# Altium footprint library memory.PcbLib: 1 footprints
Each footprint in its own frame and in the unit in brackets; x right, y up, seen from the top. Pads: shape width x height; smd on the part's side, far side on the other; paste and mask are expansions set on the pad; w line width, h text height; cw(c..) or ccw(c..) is an arc to the next point about the centre after c.
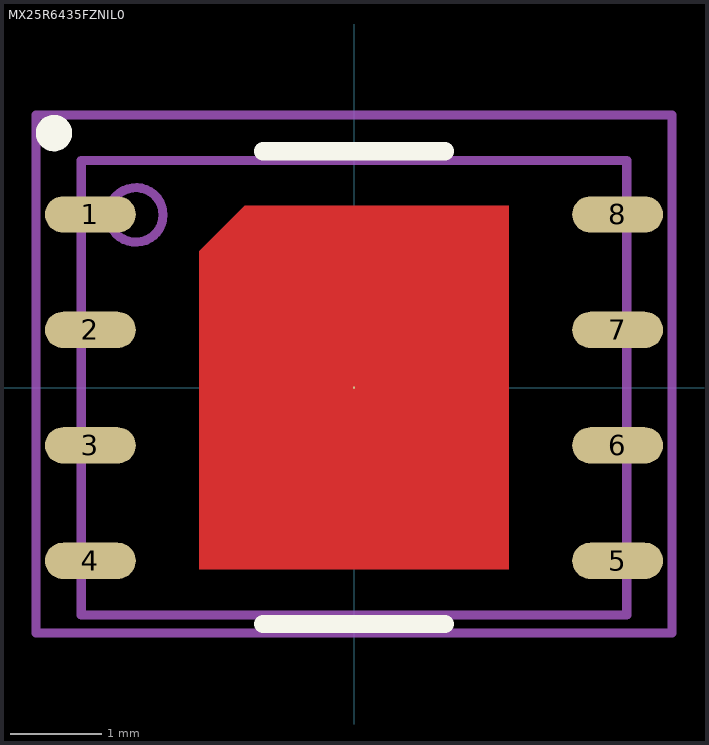
[diagram p0: the footprint, top view; thin cyan lines are the x and y axes]

## MX25R6435FZNIL0 [mm] "8-WSON (6x5)"
height 0.8
pads (9):
  round 0.025 smd paste-10: 0(0,0)
  oval 1x0.4 smd: 1(-2.9,1.905) 2(-2.9,0.635) 3(-2.9,-0.635) 4(-2.9,-1.905) 5(2.9,-1.905) 6(2.9,-0.635) 7(2.9,0.635) 8(2.9,1.905)
Top Layer:
  region: -1.7,-2 1.7,-2 1.7,2 -1.2,2 -1.7,1.5
Top Overlay:
  circle w0.2: c-3.3,2.8 r0.1
  lines w0.2: -1,-2.6 1,-2.6 ; -1,2.6 1,2.6
Top Paste:
  region: 0.4,-1.8 0.4,-0.8 -0.4,-0.8 -0.4,-1.8
  region: -0.7,-1.8 -0.7,-0.8 -1.5,-0.8 -1.5,-1.8
  region: 1.5,-1.8 1.5,-0.8 0.7,-0.8 0.7,-1.8
  region: 0.4,0.8 0.4,1.8 -0.4,1.8 -0.4,0.8
  region: -0.7,0.8 -0.7,1.8 -1.5,1.8 -1.5,0.8
  region: 1.5,0.8 1.5,1.8 0.7,1.8 0.7,0.8
  region: 0.4,-0.5 0.4,0.5 -0.4,0.5 -0.4,-0.5
  region: -0.7,-0.5 -0.7,0.5 -1.5,0.5 -1.5,-0.5
  region: 1.5,-0.5 1.5,0.5 0.7,0.5 0.7,-0.5
Top Assembly:
  circle w0.1: c-2.4,1.9 r0.3
  lines w0.1: -3,-2.5 3,-2.5 3,2.5 -3,2.5 -3,-2.5
Top Component Center:
  lines w0.1: -0.5,0 0.5,0 ; 0,-0.5 0,0.5
Top Component Outline:
  lines w0.1: -3,-2.5 3,-2.5 3,2.5 -3,2.5 -3,-2.5
Top Courtyard:
  lines w0.1: -3.5,-2.7 3.5,-2.7 3.5,3 -3.5,3 -3.5,-2.7
Top Designator:
  text "''.Designator''" at 0,0 h2.5
Top Value:
  text "''.Comment''" at 0,0 h2.5
3D body "MX25R6435FZNIL0.STEP": height 0.8, standoff 0, extent -3,-2.5 3,2.5